# Altium footprint library Vishay.PcbLib: 24 footprints (part 2 of 2)
Each footprint in its own frame and in the unit in brackets; x right, y up, seen from the top. Pads: shape width x height; smd on the part's side, far side on the other; paste and mask are expansions set on the pad; w line width, h text height; cw(c..) or ccw(c..) is an arc to the next point about the centre after c.
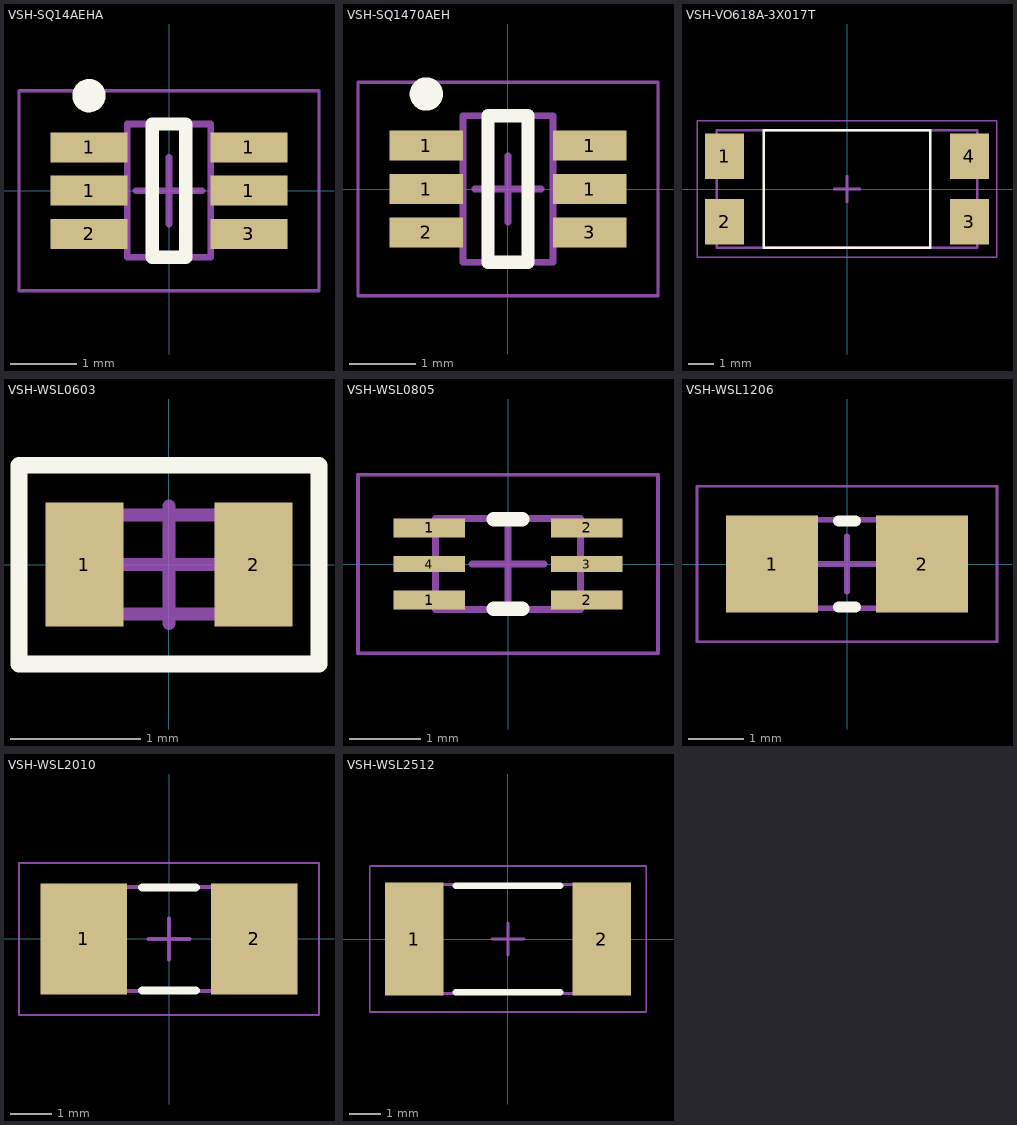
[diagram p1: the footprints below, top view; thin cyan lines are the x and y axes]

## VSH-SQ14AEHA [mm] "SOT23, 6-Leads, Body 2.00x2.10mm, Pitch 0.65mm, IPC Low Density"
height 1.1
pads (6):
  rect 1.15x0.45 smd: 1(-1.2,0) 1(-1.2,0.65) 1(1.2,0) 1(1.2,0.65) 2(-1.2,-0.65) 3(1.2,-0.65)
Top Overlay:
  circle w0.25: c-1.2,1.425 r0.125
  lines w0.2: -0.25,-1 -0.25,1 0.25,1 0.25,-1 -0.25,-1
Mechanical 2:
  lines w0.1: -0.625,-1 -0.625,1 0.625,1 0.625,-1 -0.625,-1
Mechanical 4:
  lines w0.05: -2.25,-1.5 -2.25,1.5 2.25,1.5 2.25,-1.5 -2.25,-1.5
  lines w0.1: -0.5,0 0.5,0 ; 0,-0.5 0,0.5
3D body "VSH-SQ14AEHA.step": height 1.1, standoff 0, extent -1.3,-1 1.3,1

## VSH-SQ1470AEH [mm] "SOT23, 6-Leads, Body 2.00x2.10mm, Pitch 0.65mm, IPC Low Density"
height 1.1
pads (6):
  rect 1.1x0.45 smd: 1(-1.225,0) 1(-1.225,0.65) 1(1.225,0) 1(1.225,0.65) 2(-1.225,-0.65) 3(1.225,-0.65)
Top Overlay:
  circle w0.25: c-1.225,1.425 r0.125
  lines w0.2: -0.3,-1.1 -0.3,1.1 0.3,1.1 0.3,-1.1 -0.3,-1.1
Mechanical 2:
  lines w0.1: -0.675,-1.1 -0.675,1.1 0.675,1.1 0.675,-1.1 -0.675,-1.1
Mechanical 4:
  lines w0.05: -2.25,-1.6 -2.25,1.6 2.25,1.6 2.25,-1.6 -2.25,-1.6
  lines w0.1: -0.5,0 0.5,0 ; 0,-0.5 0,0.5
3D body "VSH-SOT363.step": height 1.1, standoff 0, extent -1.3,-1.1 1.3,1.1

## VSH-VO618A-3X017T [mm] "4-SMD, Gull Wing"
height 4.375
pads (4):
  rect 1.52x1.78 smd: 1(-4.765,1.27) 2(-4.765,-1.27) 3(4.765,-1.27) 4(4.765,1.27)
Top Overlay:
  lines w0.1: -3.25,2.29 -3.25,-2.29 3.25,-2.29 3.25,2.29 -3.25,2.29 ; -3.25,2.29 -3.25,2.29
Mechanical 2:
  lines w0.1: -5.08,-2.29 -5.08,2.29 5.08,2.29 5.08,-2.29 -5.08,-2.29
Mechanical 4:
  lines w0.05: -5.842,-2.667 -5.842,2.667 5.842,2.667 5.842,-2.667 -5.842,-2.667
  lines w0.1: -0.5,0 0.5,0 ; 0,-0.5 0,0.5
3D body "NA__NA__VISHAY__SMD-4__OP7--3DModel-Eagle-1.STEP": height 3.69, standoff 0, extent -5.08,-2.29 5.08,2.29

## VSH-WSL0603 [mm] "Chip Resistor, 2-Leads, Body 1.52x0.76mm, IPC Low Density"
height 0.46
pads (2):
  rect 0.598x0.95 smd: 1(-0.649,0) 2(0.649,0)
Top Overlay:
  lines w0.127: -1.15,-0.762 1.15,-0.762 1.15,0.762 -1.15,0.762 -1.15,-0.762
Mechanical 2:
  lines w0.1: -0.76,-0.38 -0.76,0.38 0.76,0.38 0.76,-0.38 -0.76,-0.38
Mechanical 4:
  lines w0.05: 1.143,0.762 -1.143,0.762 -1.143,-0.762 1.143,-0.762 1.143,0.771
  lines w0.1: -0.45,0 0.45,0 ; 0,-0.45 0,0.45
3D body "VSH-WSL0603.step": height 0.46, standoff 0, extent -0.76,-0.38 0.76,0.38

## VSH-WSL0805 [mm] "Chip Resistor, 2-Leads, Body 2.03x1.27mm, IPC Low Density"
height 0.46
pads (6):
  rect 1x0.27 smd mask+0.07: 1(-1.1,-0.505) 1(-1.1,0.505) 2(1.1,-0.505) 2(1.1,0.505)
  rect 1x0.22 smd mask+0.07: 3(1.1,0) 4(-1.1,0)
Top Overlay:
  lines w0.2: -0.2,-0.625 0.2,-0.625 ; -0.2,0.625 0.2,0.625
Mechanical 2:
  lines w0.1: -1.015,-0.635 1.015,-0.635 1.015,0.635 -1.015,0.635 -1.015,-0.635
Mechanical 4:
  lines w0.05: -2.1,-1.25 -2.1,1.25 2.1,1.25 2.1,-1.25 -2.1,-1.25
  lines w0.1: -0.5,0 0.5,0 ; 0,-0.5 0,0.5
3D body "VSH-WSL0805.step": height 0.46, standoff 0, extent -1.015,-0.635 1.015,0.635

## VSH-WSL1206 [mm] "Chip Resistor, 2-Leads, Body 3.20x1.60mm, IPC Low Density"
height 0.89
pads (2):
  rect 1.65x1.75 smd: 1(-1.35,0) 2(1.35,0)
Top Overlay:
  lines w0.2: -0.15,-0.775 0.15,-0.775 ; -0.15,0.775 0.15,0.775
Mechanical 2:
  lines w0.1: -1.6,-0.8 1.6,-0.8 1.6,0.8 -1.6,0.8 -1.6,-0.8
Mechanical 4:
  lines w0.05: -2.7,-1.4 -2.7,1.4 2.7,1.4 2.7,-1.4 -2.7,-1.4
  lines w0.1: -0.5,0 0.5,0 ; 0,-0.5 0,0.5
3D body "VSH-WSL1206.step": height 0.89, standoff 0, extent -1.6,-0.8 1.6,0.8

## VSH-WSL2010 [mm] "Chip Resistor, 2-Leads, Body 5.08x2.54mm, IPC Low Density"
height 0.89
pads (2):
  rect 2.1x2.7 smd: 1(-2.075,0) 2(2.075,0)
Top Overlay:
  lines w0.2: -0.65,-1.25 0.65,-1.25 ; -0.65,1.25 0.65,1.25
Mechanical 2:
  lines w0.1: -2.54,-1.27 -2.54,1.27 2.54,1.27 2.54,-1.27 -2.54,-1.27
Mechanical 4:
  lines w0.05: -3.65,-1.85 3.65,-1.85 3.65,1.85 -3.65,1.85 -3.65,-1.85
  lines w0.1: -0.5,0 0.5,0 ; 0,-0.5 0,0.5
3D body "VSH-WSL2010.step": height 0.89, standoff 0, extent -2.54,-1.27 2.54,1.27

## VSH-WSL2512 [mm] "Chip Resistor, 2-Leads, Body 6.35x3.18mm, IPC Low Density"
height 0.89
pads (2):
  rect 1.85x3.55 smd: 1(-2.95,0) 2(2.95,0)
Top Overlay:
  lines w0.2: -1.65,-1.675 1.65,-1.675 ; -1.65,1.675 1.65,1.675
Mechanical 2:
  lines w0.1: -3.3,-1.715 -3.3,1.715 3.3,1.715 3.3,-1.715 -3.3,-1.715
Mechanical 4:
  lines w0.05: -4.35,-2.3 -4.35,2.3 4.35,2.3 4.35,-2.3 -4.35,-2.3
  lines w0.1: -0.5,0 0.5,0 ; 0,-0.5 0,0.5
3D body "VSH-WSL2512.step": height 0.89, standoff 0, extent -3.3,-1.715 3.3,1.715